# EAGLE library part LM2776 (library LM2776)
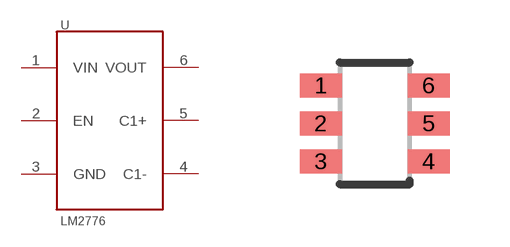
[diagram p0: symbol with the pads of SOT23-5; footprint SOT23-5]

Designator prefix -

## LM2776DBVR  [SOT23-5]
1  VIN
2  EN
3  GND
4  C1-
5  C1+
6  VOUT

## Footprint SOT23-5 (pad centres in mm)
smd 1.05 x 0.6: 1 -1.35,0.95; 2 -1.35,0; 3 -1.35,-0.95; 4 1.35,-0.95; 5 1.35,0; 6 1.35,0.95